# Altium footprint library LGA-8(2.0X2.5).PcbLib: 1 footprints
Each footprint in its own frame and in the unit in brackets; x right, y up, seen from the top. Pads: shape width x height; smd on the part's side, far side on the other; paste and mask are expansions set on the pad; w line width, h text height; cw(c..) or ccw(c..) is an arc to the next point about the centre after c.
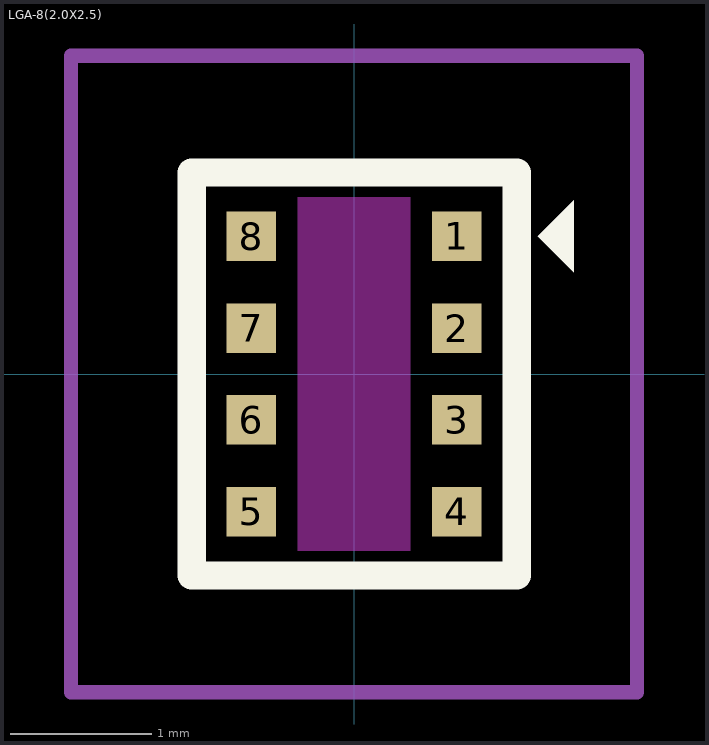
[diagram p0: the footprint, top view; thin cyan lines are the x and y axes]

## LGA-8(2.0X2.5) [mm]
pads (8):
  rect 0.35x0.35 smd paste+0: 1(0.725,0.975) 2(0.725,0.325) 3(0.725,-0.325) 4(0.725,-0.975) 5(-0.725,-0.975) 6(-0.725,-0.325) 7(-0.725,0.325) 8(-0.725,0.975)
Top Layer keep-out:
  rectangle: -0.4,-1.25 0.4,1.25
Top Overlay:
  region: 1.3,0.975 1.554,1.229 1.554,0.721
  lines w0.2: -1.147,-1.425 1.15,-1.425 1.15,1.425 -1.147,1.425 -1.147,-1.425
Top Paste:
  rectangle: 0.55,0.8 0.9,1.15
  rectangle: 0.55,-1.15 0.9,-0.8
  rectangle: 0.55,-0.5 0.9,-0.15
  rectangle: 0.55,0.15 0.9,0.5
  rectangle: -0.9,-1.15 -0.55,-0.8
  rectangle: -0.9,-0.5 -0.55,-0.15
  rectangle: -0.9,0.15 -0.55,0.5
  rectangle: -0.9,0.8 -0.55,1.15
Top Courtyard:
  lines w0.1: -2,-2.25 -1,-2.25 2,-2.25 2,2.25 -2,2.25 -2,-2.25
3D body "DPS368XTSA1--3DModel-STEP-46669.STEP": height 1, standoff 0, extent -1,-1.25 1,1.25